# EAGLE library part CON-MOLEX-MILLI-GRID_79107-12 (library LinkedLibrary52101)
RECEPTACAL
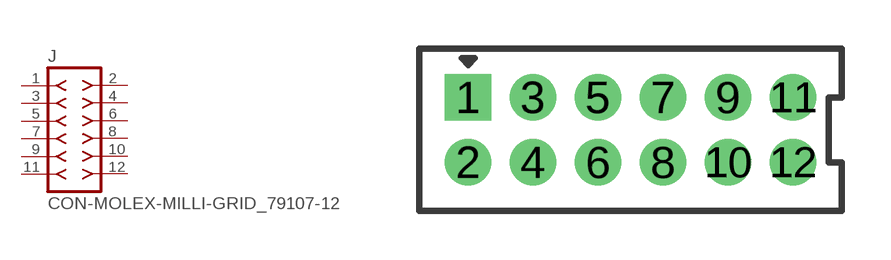
[diagram p0: symbol with the pads of CON-MOLEX-MILLI-GRID_79107-12; footprint CON-MOLEX-MILLI-GRID_79107-12]

Designator prefix J

## CON-MOLEX-MILLI-GRID_79107-12  [CON-MOLEX-MILLI-GRID_79107-12]
1  1  pas
2  2  pas
3  3  pas
4  4  pas
5  5  pas
6  6  pas
7  7  pas
8  8  pas
9  9  pas
10  10  pas
11  11  pas
12  12  pas

## Footprint CON-MOLEX-MILLI-GRID_79107-12 (pad centres in mm)
RECEPTACAL Dual Row, Vertical, Through-Hole
drill 0.914 square: 1 -5,1
drill 0.914: 2 -5,-1; 3 -3,1; 4 -3,-1; 5 -1,1; 6 -1,-1; 7 1,1; 8 1,-1; 9 3,1; 10 3,-1; 11 5,1; 12 5,-1